# Altium footprint library Capacitors Electrolytic.PcbLib: 5 footprints
Each footprint in its own frame and in the unit in brackets; x right, y up, seen from the top. Pads: shape width x height; smd on the part's side, far side on the other; paste and mask are expansions set on the pad; w line width, h text height; cw(c..) or ccw(c..) is an arc to the next point about the centre after c.
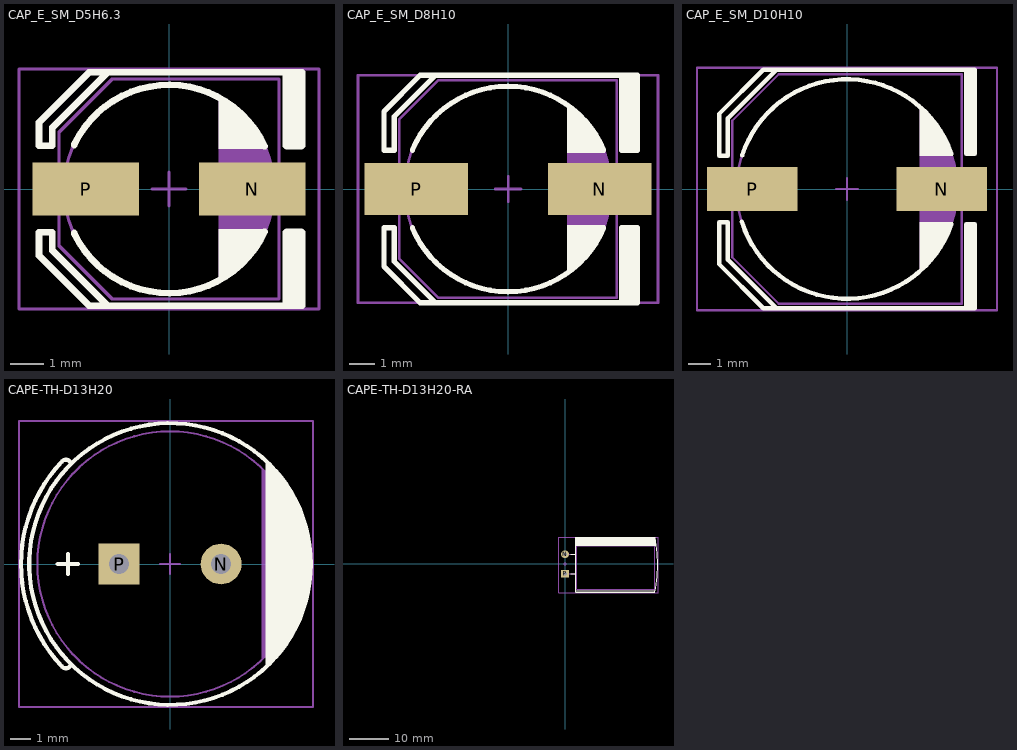
[diagram p0: the footprints below, top view; thin cyan lines are the x and y axes]

## CAP_E_SM_D5H6.3 [mm]
height 7.7
pads (2):
  rect 3.2x1.6 smd: N(2.5,0) P(-2.5,0)
Top Overlay:
  region: 3.5,3.5 4,3.5 4,1.2 3.5,1.2
  region: 1.5,-2.7 1.641,-2.661 1.904,-2.53 2.135,-2.349 2.327,-2.128 2.4,-2 2.449,-1.946 2.537,-1.828 2.612,-1.702 2.675,-1.569 2.7,-1.5 2.731,-1.466 2.788,-1.394 2.841,-1.319 2.89,-1.241 2.911,-1.2 1.5,-1.2
  region: 1.5,2.7 1.641,2.661 1.904,2.53 2.135,2.349 2.327,2.128 2.4,2 2.449,1.946 2.537,1.828 2.612,1.702 2.675,1.569 2.7,1.5 2.731,1.466 2.788,1.394 2.841,1.319 2.89,1.241 2.911,1.2 1.5,1.2
  region: 3.5,-3.5 4,-3.5 4,-1.2 3.5,-1.2
  lines w0.2: -2.847,-1.322 ccw(c0,0.025) 2.865,-1.284 ; -2.847,1.322 cw(c0,-0.025) 2.865,1.284 ; -1.9,-3.5 -2.4,-3.5 -3.9,-2 -3.9,-1.3 -3.5,-1.3 -3.5,-1.85 -1.85,-3.5 ; -1.9,3.5 -2.4,3.5 -3.9,2 -3.9,1.3 -3.5,1.3 -3.5,1.85 -1.85,3.5 4,3.5 4,1.3 ; -1.875,-3.5 4,-3.5 4,-1.3 ; 3.5,-3.5 3.5,-1.3 ; 3.5,1.3 3.5,3.5
Top Package:
  circle w0.1: c0,0 r3.15
  region: 1.5,2.8 1.583,2.761 1.741,2.666 1.888,2.556 2.025,2.432 2.086,2.364 2.147,2.323 2.261,2.229 2.366,2.125 2.459,2.011 2.5,1.95 2.574,1.852 2.702,1.644 2.809,1.423 2.894,1.193 2.925,1.075 2.976,0.966 3.055,0.74 3.111,0.507 3.145,0.27 3.15,0.15 3.15,-0.15 3.148,-0.32 3.098,-0.655 3.003,-0.981 2.865,-1.291 2.775,-1.435 2.753,-1.501 2.696,-1.629 2.627,-1.75 2.546,-1.863 2.5,-1.915 2.459,-1.977 2.366,-2.091 2.262,-2.195 2.148,-2.288 2.086,-2.329 2.028,-2.404 1.895,-2.54 1.747,-2.659 1.586,-2.76 1.5,-2.8
  lines w0.1: -3.3,-1.7 -1.7,-3.3 3.3,-3.3 3.3,3.3 -1.7,3.3 -3.3,1.7 -3.3,-1.7
Top Border:
  lines w0.1: -0.498,-0.001 0.502,-0.001 ; 0.002,-0.501 0.002,0.499 ; -4.5,-3.6 4.5,-3.6 4.5,3.6 -4.5,3.6 -4.5,-3.6
3D body "ALU-D8.STEP": height 7.7, standoff 0, extent -3.5,-3.3 3.5,3.3

## CAP_E_SM_D8H10 [mm]
height 10
pads (2):
  rect 4x2 smd: N(3.55,0) P(-3.55,0)
Top Overlay:
  region: 2.3,3.233 2.365,3.197 2.487,3.112 2.6,3.015 2.704,2.908 2.75,2.85 2.809,2.808 2.918,2.713 3.017,2.608 3.105,2.494 3.144,2.433 3.21,2.371 3.325,2.23 3.421,2.076 3.498,1.912 3.525,1.825 3.56,1.777 3.623,1.675 3.678,1.568 3.723,1.457 3.742,1.4 2.3,1.4
  region: 2.3,-3.233 2.365,-3.197 2.487,-3.112 2.6,-3.015 2.704,-2.908 2.75,-2.85 2.809,-2.808 2.918,-2.713 3.017,-2.608 3.105,-2.494 3.144,-2.433 3.21,-2.371 3.325,-2.23 3.421,-2.076 3.498,-1.912 3.525,-1.825 3.56,-1.777 3.623,-1.675 3.678,-1.568 3.723,-1.457 3.742,-1.4 2.3,-1.4
  region: 4.4,4.4 5,4.4 5,1.4 4.4,1.4
  region: 4.4,-4.4 5,-4.4 5,-1.4 4.4,-1.4
  lines w0.2: -3.698,-1.499 ccw(c0,0.025) 3.698,-1.499 ; -3.698,1.499 cw(c0,-0.025) 3.698,1.499 ; 4.4,-4.4 4.4,-1.5 ; 4.4,1.5 4.4,4.4 ; 5,-1.5 5,-4.4 -2.8,-4.4 ; 5,1.5 5,4.4 -2.8,4.4 ; -2.8,-4.4 -4.4,-2.8 -4.4,-1.5 -4.8,-1.5 -4.8,-3 -3.4,-4.4 -2.8,-4.4 ; -2.8,4.4 -3.4,4.4 -4.8,3 -4.8,1.5 -4.4,1.5 -4.4,2.8 -2.8,4.4
Top Package:
  circle w0.1: c0,0 r4
  region: 2.3,3.254 2.421,3.186 2.646,3.024 2.854,2.841 3.042,2.636 3.125,2.525 3.207,2.435 3.353,2.241 3.479,2.033 3.584,1.814 3.625,1.7 3.679,1.608 3.768,1.414 3.837,1.213 3.886,1.006 3.9,0.9 3.931,0.81 3.974,0.624 4,0.435 4.006,0.245 4,0.15 4,-0.15 4.005,-0.345 3.962,-0.732 3.867,-1.109 3.722,-1.471 3.625,-1.64 3.615,-1.682 3.585,-1.763 3.547,-1.842 3.501,-1.915 3.475,-1.95 3.453,-2.011 3.4,-2.129 3.337,-2.243 3.267,-2.352 3.227,-2.404 3.14,-2.536 2.934,-2.778 2.699,-2.993 2.44,-3.177 2.3,-3.252
  lines w0.1: -4.2,-2.7 -4.2,2.7 -2.7,4.2 4.2,4.2 4.2,-4.2 -2.7,-4.2 -4.2,-2.7
Top Border:
  lines w0.1: -0.498,-0.001 0.502,-0.001 ; 0.002,-0.501 0.002,0.499 ; -5.8,-4.4 -5.8,4.4 5.8,4.4 5.8,-4.4 -5.8,-4.4
3D body "CAPA8LS F.STEP": height 10.2, standoff 0, extent -4.95,-4.15 4.95,4.15

## CAP_E_SM_D10H10 [mm]
height 10
pads (2):
  rect 4.1x2 smd: N(4.3,0) P(-4.3,0)
Top Overlay:
  region: 3.297,-3.7 3.45,-3.576 3.731,-3.301 3.983,-2.999 4.204,-2.674 4.299,-2.501 4.348,-2.447 4.436,-2.329 4.512,-2.202 4.575,-2.069 4.6,-2 4.8,-1.5 3.297,-1.5
  region: 3.297,3.7 3.45,3.576 3.731,3.301 3.983,2.999 4.204,2.674 4.299,2.501 4.348,2.447 4.436,2.329 4.512,2.202 4.575,2.069 4.6,2 4.8,1.5 3.297,1.5
  region: 5.4,5.4 5.8,5.4 5.8,1.5 5.4,1.5
  region: 5.4,-5.4 5.8,-5.4 5.8,-1.5 5.4,-1.5
  lines w0.2: -4.765,-1.489 ccw(c0,0.025) 4.733,-1.586 ; -4.756,1.518 cw(c0,-0.025) 4.733,1.586 ; 5.4,-5.4 5.4,-1.6 ; 5.4,1.6 5.4,5.4 ; 5.8,-1.6 5.8,-5.4 -3.2,-5.4 ; 5.8,1.6 5.8,5.4 -3.2,5.4 ; -3.2,-5.4 -5.4,-3.2 -5.4,-1.5 -5.8,-1.5 -5.8,-3.4 -3.8,-5.4 -3.2,-5.4 ; -3.2,5.4 -5.4,3.2 -5.4,1.5 -5.8,1.5 -5.8,3.4 -3.8,5.4 -3.2,5.4
Top Package:
  circle w0.1: c0,0 r5
  region: 3.3,3.7 3.44,3.588 3.694,3.335 3.921,3.058 4.118,2.759 4.2,2.6 4.273,2.505 4.401,2.303 4.508,2.089 4.594,1.865 4.625,1.75 4.679,1.658 4.768,1.464 4.837,1.263 4.886,1.056 4.9,0.95 4.931,0.86 4.974,0.674 5,0.485 5.006,0.295 5,0.2 5,-0.1 5.013,-0.267 4.993,-0.6 4.928,-0.928 4.818,-1.244 4.743,-1.394 4.741,-1.459 4.724,-1.589 4.695,-1.716 4.653,-1.84 4.625,-1.9 4.597,-1.981 4.527,-2.137 4.445,-2.288 4.352,-2.432 4.3,-2.5 4.215,-2.678 4.001,-3.011 3.749,-3.314 3.46,-3.584 3.3,-3.7
  lines w0.1: -5.2,-3.1 -5.2,3.1 -3.1,5.2 5.2,5.2 5.2,-5.2 -3.1,-5.2 -5.2,-3.1
Top Border:
  lines w0.1: -0.498,-0.001 0.502,-0.001 ; 0.002,-0.501 0.002,0.499 ; -6.8,-5.5 6.8,-5.5 6.8,5.5 -6.8,5.5 -6.8,-5.5
3D body "CAPA10LS G.STEP": height 10.2, standoff 0, extent -5.8,-5.15 5.8,5.15

## CAPE-TH-D13H20 [mm]
height 22
pads (2):
  round 2 hole 1: N(2.5,0)
  rect 2x2 hole 1: P(-2.5,0)
Top Overlay:
  circle w0.2: c0,0 r6.9
  region: 4.7,5 4.7,-5 5.9,-3.7 6.7,-1.8 6.9,-0.3 6.8,1 6.2,3.1 5.5,4.2
  region: 4.4,5.3
  region: 4.3,5.3
  lines w0.2: -5.5,0 -4.5,0 ; -5.321,-4.997 cw(c0,0) -5.321,4.997 ; -5.308,-5.006 ccw(c-5.1,-4.85) -4.848,-4.913 ; -5.308,5.006 cw(c-5.1,4.85) -4.848,4.913 ; -5,-0.5 -5,0.5
Top Package:
  circle w0.1: c2.5,0 r0.3
  circle w0.1: c-2.5,0 r0.3
  circle w0.1: c0,0 r6.5
  region: 4.5,4.7 4.5,-4.7 5.2,-3.9 5.8,-3 6.2,-1.9 6.5,-0.6 6.5,0.6 6.3,1.6 5.9,2.7 5.5,3.5
Top Border:
  lines w0.1: -0.5,0 0.5,0 ; 0,-0.5 0,0.5 ; -7.4,-7 7,-7 7,7 -7.4,7 -7.4,-7
3D body "User Library-Cap-EL(13x20-5).stp": height 20.1, standoff -3.2, extent -6.5,-6.5 6.504,6.5

## CAPE-TH-D13H20-RA [mm]
height 13
pads (2):
  round 2 hole 1: N(0,2.5)
  rect 2x2 hole 1: P(0,-2.5)
Top Overlay:
  region: 2.7,6.8 23.1,6.8 23.4,4.8 2.7,4.8
  lines w0.2: 1.5,-2.5 2.7,-2.5 ; 1.5,2.5 2.7,2.5 ; 2.7,4.8 23.4,4.8 ; 23,-7.2 2.7,-7.2 2.7,-6.8 ; 23,-6.8 2.7,-6.8 ; 23.019,-7.204 ccw(c-14.644,0) 23.094,6.799 ; 23.1,6.8 2.7,6.8 2.7,-6.8
Top Package:
  circle w0.1: c0,2.5 r0.3
  circle w0.1: c0,-2.5 r0.3
  region: 3,6.5 23,6.5 23,4.5 3,4.5
  lines w0.1: 0.5,-2.5 3,-2.5 ; 0.5,2.5 3,2.5 ; 3,5 23,5 ; 3,-6.5 3,6.5 23,6.5 23,-6.5 3,-6.5
Top Border:
  lines w0.1: -0.5,0 0.5,0 ; 0,-0.5 0,0.5 ; -1.6,-7.3 23.8,-7.3 23.8,6.9 -1.6,6.9 -1.6,-7.3
3D body "User Library-Cap-EL(13x20-5).stp": height 13.1, standoff 0.1, extent -0.3,-6.5 23.002,6.504